# Altium footprint library PCB - CONNECTOR - SAMTEC IPL1-104-01-L-D-K.PCBLIB: 1 footprints
Each footprint in its own frame and in the unit in brackets; x right, y up, seen from the top. Pads: shape width x height; smd on the part's side, far side on the other; paste and mask are expansions set on the pad; w line width, h text height; cw(c..) or ccw(c..) is an arc to the next point about the centre after c.
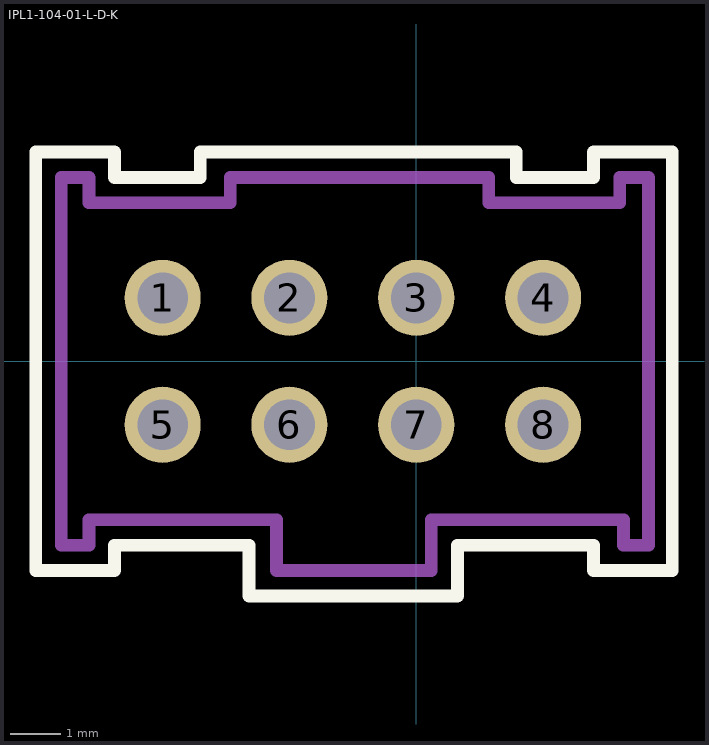
[diagram p0: the footprint, top view; thin cyan lines are the x and y axes]

## IPL1-104-01-L-D-K [mil]
pads (8):
  round 60 hole 40 mask+3: 1(-200,50) 2(-100,50) 3(0,50) 4(100,50) 5(-200,-50) 6(-100,-50) 7(0,-50) 8(100,-50)
Top Overlay:
  lines w10: -300,-165 -300,165 -238,165 -238,145 -170.28,145 -170.28,165 78.74,165 78.74,145 139.76,145 139.76,165 201.77,165 201.77,-165 139.76,-165 139.76,-145 32.48,-145 32.48,-185 -131.89,-185 -131.89,-145 -238,-145 -238,-165 -300,-165
M5 Assembly Top:
  lines w10: -280,-145 -280,145 -258,145 -258,125 -146.65,125 -146.65,145 57.09,145 57.09,125 160.43,125 160.43,145 183.07,145 183.07,-145 163.39,-145 163.39,-125 11.81,-125 11.81,-165 -110.24,-165 -110.24,-125 -258,-125 -258,-145 -280,-145
  text ".Designator" at -106.3,-39.37 h60
3D body "IPL1-104-01-L-D-K.stp": height 320, standoff -120, extent -280,-165 180,145